# EAGLE library part CON_SEU (library EXCISS)
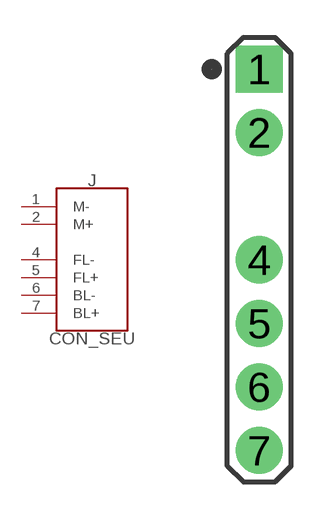
[diagram p18: symbol with the pads of CON_SEU; footprint CON_SEU]

Designator prefix J

## CON_SEU  [CON_SEU]
1  M-  out
2  M+  out
4  FL-  out
5  FL+  out
6  BL-  out
7  BL+  out

## Footprint CON_SEU (pad centres in mm)
drill 1.016 pad 1.88 square: 1 0,0
drill 1.016 pad 1.88: 2 0,-2.54; 4 0,-7.62; 5 0,-10.16; 6 0,-12.7; 7 0,-15.24